# Altium integrated library Linear Technology Power Management Hot Swap Controllers.IntLib: 992 symbols (part 82 of 93)
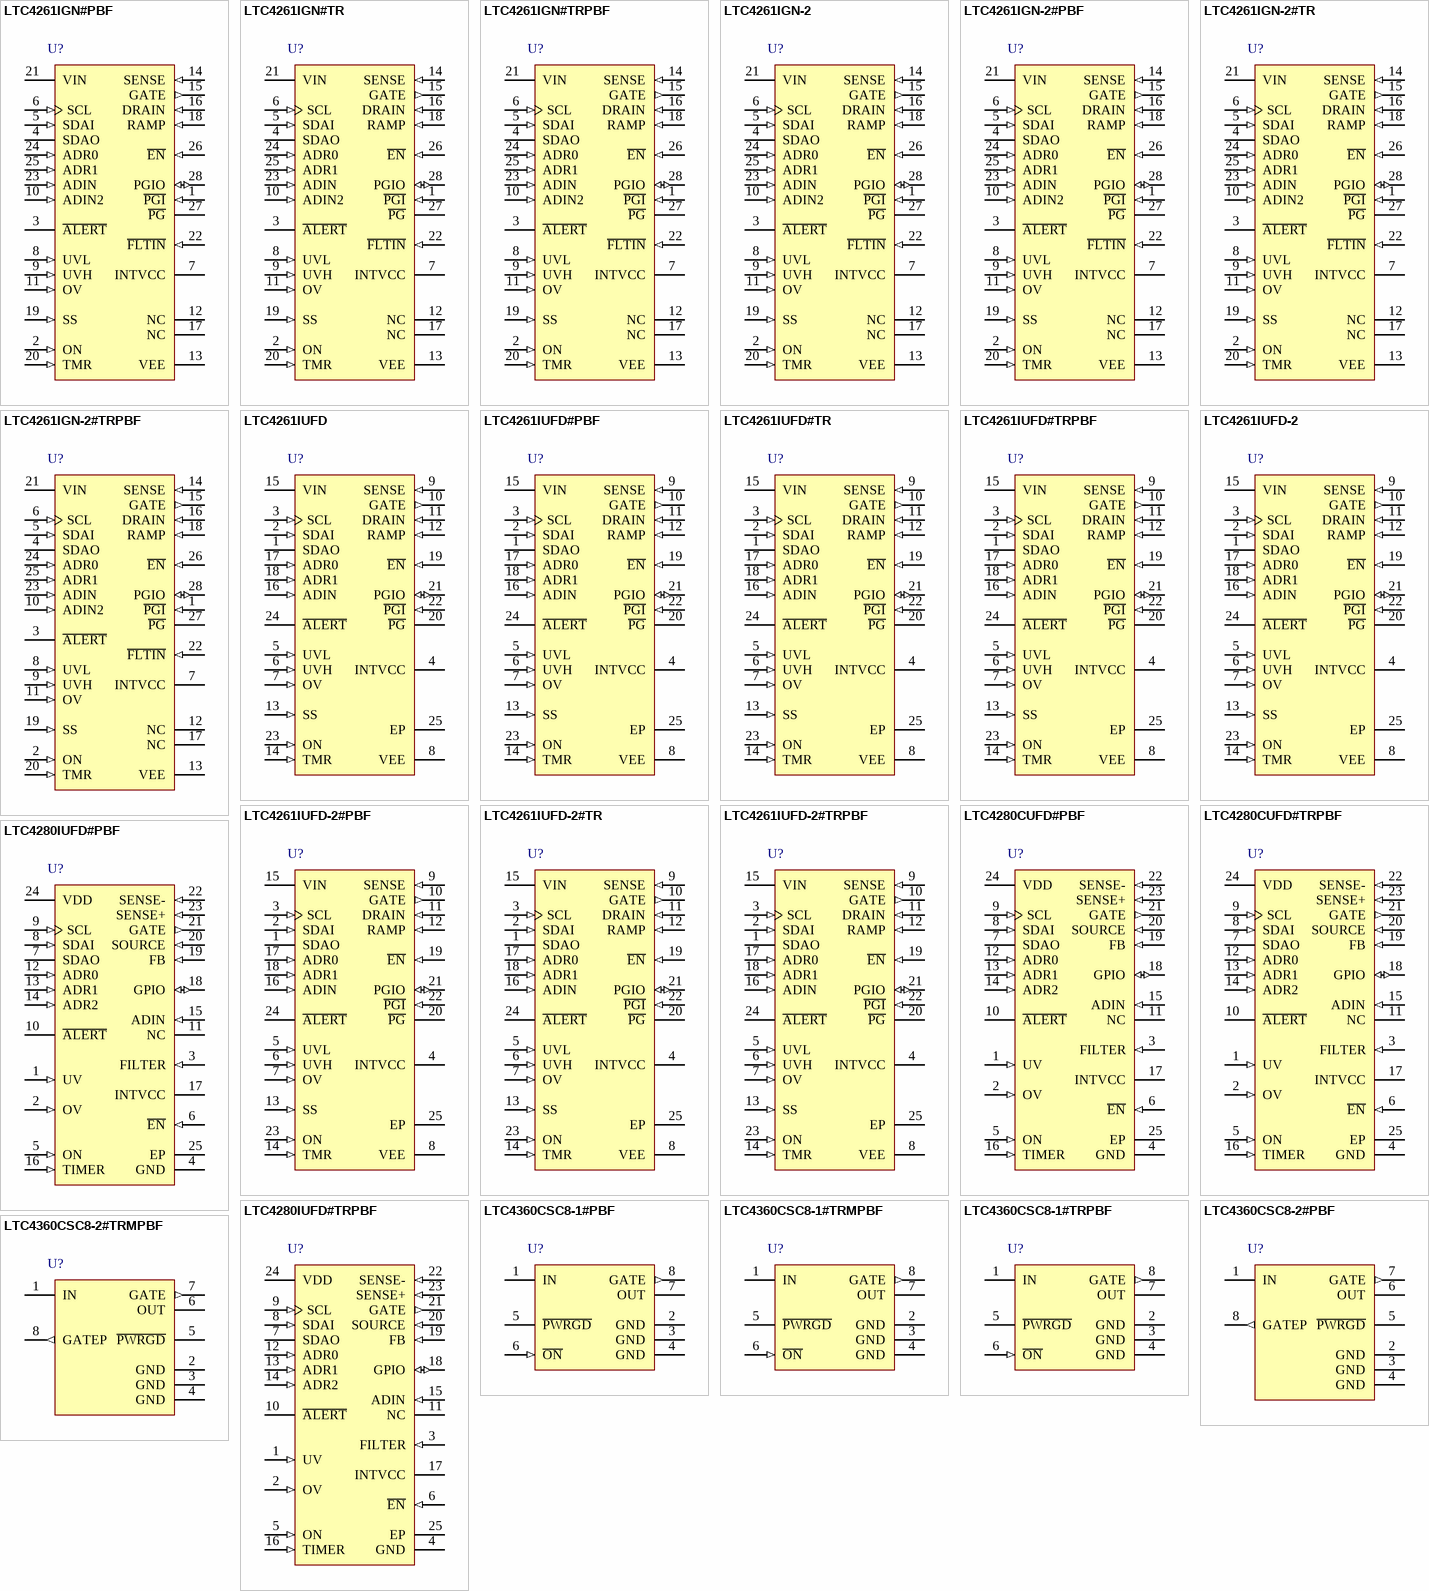
[diagram p118: symbols LTC4261IGN#PBF to LTC4360CSC8-2#TRMPBF]

## LTC4280IUFD#PBF
designator U?
Hot Swap Controller with I2C Compatible Monitoring, 2.9 to 15 V Vin, 24-pin QFN (UFD-24), -40 to 85 degC, Pb-Free; Manufacturer: Linear Technology; PartNumber: LTC4280IUFD#PBF; Active Limiting: yes; ADC: 8-bit; Circuit Breaker Accuracy(%): 10; Circuit Breaker Threshold: 25 mV; Circuit Breakers(#): 1; Extended Temp: C, I; Fast Comparator: no; In-Rush Current: Active / Controlled dI/dT; PackageVersion: Rev. A, 06/2010; PackageReference: UFD-24; PackageDescription: 24-Pin Plastic QFN, Body 5 x 4 mm, Pitch 0.5 mm; Supplier 1: Digi-Key; Supplier Part Number 1: LTC4280IUFD#PBF-ND; Supplier 2: Newark; Supplier Part Number 2: 13T3976; Fault: yes; Foldback: yes; Power Good: yes; Reset: no; RoHS: TRUE; Vin Range: 2.9 to 15 V; Mounting Technology: Surface Mount; Code_JEDEC: MO-220; ComponentLink1Description: Manufacturer URL; ComponentLink1URL: http://www.linear.com/; ComponentLink2Description: Datasheet; ComponentLink2URL: http://cds.linear.com/docs/en/datasheet/4280f.pdf; ComponentLink3Description: Package Specification; ComponentLink3URL: http://cds.linear.com/docs/en/packaging/QFN_24_05-08-1696.pdf
footprint LT-UFD-24_N (QFN, 24-Leads, Body 5.1x4.1mm, Pitch 0.5mm, Thermal Pad 3.65x2.65 mm, IPC Medium Density)
footprint LT-UFD-24_L (QFN, 24-Leads, Body 5.1x4.1mm, Pitch 0.5mm, Thermal Pad 3.65x2.65 mm, IPC High Density)
footprint LT-UFD-24_M (QFN, 24-Leads, Body 5.1x4.1mm, Pitch 0.5mm, Thermal Pad 3.65x2.65 mm, IPC Low Density)
pins: 1 UV (in) "Undervoltage Comparator Input. Connect this pin to an external resistive divider from VDD. If the voltage at this pin falls below 1.155V, an undervoltage fault is detected and the GATE turns off. Pulling this pin below 0.4V (See Datasheet)", 2 OV (in) "Overvoltage Comparator Input. Connect this pin to an external resistive divider from VDD. If the voltage at this pin rises above 1.235V, an overvoltage fault is detected and the GATE turns off. Tie to GND if unused.", 3 FILTER (in) "Fault Filter Input. Connect a capacitor between this pin and ground to set a 123ms/uF delay for overcurrent fault filtering after startup.", 4 GND (power) "Device Ground.", 5 ON (in) "On Control Input. A rising edge turns on the external N-channel MOSFET and a falling edge turns it off. This pin also configures the state of the FET On bit in the control register (and hence the external MOSFET) at powe(See Datasheet)", 6 ~{EN} (in) "Enable Input. Ground this pin to indicate a board is present and enable the N-channel MOSFET to turn on. When this pin is high, the MOSFET is not allowed to turn on. An internal 10uA current source pulls up this pin. (See Datasheet)", 7 SDAO (oc) "Serial Bus Data Output. Open-drain output for sending data back to the master controller or acknowledging a write operation. Normally tied to SDAI to form the SDA line. An external pull-up resistor or current source is (See Datasheet)", 8 SDAI (in) "Serial Bus Data Input. A high impedance input for shifting in address, command or data bits. Normally tied to SDAO to form the SDA line.", 9 SCL (in) "Serial Bus Clock Input. Data at the SDA pin is shifted in or out on rising edges of SCL. This is a high impedance pin that is generally driven by an open-collector output from a master controller. An external pull-up (See Datasheet)", 10 ~{ALERT} (oc) "Fault Alert Output. Open-drain logic output that is pulled to ground when a fault occurs to alert the host controller. A fault alert is enabled by the ALERT register. See Applications Information. Tie to ground if unused.", 11 NC, 12 ADR0 (in) "Serial Bus Address Input. Tying these pins to ground, to the INTVCC pin or open con?gures  one of 27 possible addresses. See Table 1 in Applications  Information.", 13 ADR1 (in) "Serial Bus Address Input. Tying these pins to ground, to the INTVCC pin or open con?gures  one of 27 possible addresses. See Table 1 in Applications  Information.", 14 ADR2 (in) "Serial Bus Address Input. Tying these pins to ground, to the INTVCC pin or open con?gures  one of 27 possible addresses. See Table 1 in Applications  Information.", 15 ADIN (in) "ADC Input. A voltage between 0V and 1.235V  applied to this pin is measured by the onboard ADC. Tie  to ground if unused.", 16 TIMER (in) "Start-Up Timer Input. Connect a capacitor between this pin and ground to set a 12.3ms/uF duration for start-up, after which an overcurrent fault is logged if the inrush is still current limited. The duration of the off time (See Datasheet)", 17 INTVCC (power) "Low Voltage Supply Decoupling Output. Connect a 0.1uF capacitor from this pin to ground.", 18 GPIO (io) "General Purpose Input/Output. Open-drain logic output or logic input. Defaults to an output set to pull low to indicate power is not good. Configure according to Table 2 and 3.", 19 FB (in) "Foldback Current Limit and Power Good Input. A  resistive divider from the output is tied to this pin. When the voltage at this pin drops below 1.235V, power is not considered good. The power bad condition may result in the  (See Datasheet)", 20 SOURCE (in) "N-Channel MOSFET Source and ADC Input. Connect this pin to the source of the external N-channel MOSFET switch for gate drive return. This pin also serves as the ADC input to monitor output voltage. The pin provides a return (See Datasheet)", 21 GATE (out) "Gate Drive for External N-Channel MOSFET. An internal 20uA current source charges the gate of the MOSFET. Often no compensation capacitor is required on the GATE pin, but a resistor and capacitor network from this pin to (See Datasheet)", 22 SENSE- (in) "Negative Current Sense Input. Connect this pin to the output of the current sense resistor. This pin provides sense voltage feedback and monitoring for the current limit, circuit breaker and ADC.", 23 SENSE+ (in) "Positive Current Sense Input. Connect this pin to the input of the current sense resistor. Must be connected to the same trace as VDD.", 24 VDD (power) "Supply Voltage Input. This pin has an undervoltage  lockout threshold of 2.84V and overvoltage lockout  threshold of 15.6V.", 25 EP "Exposed pad may be left open or connected to device ground."

## LTC4280IUFD#TRPBF
designator U?
Hot Swap Controller with I2C Compatible Monitoring, 2.9 to 15 V Vin, 24-pin QFN (UFD-24), -40 to 85 degC, Pb-Free, Tape and Reel; Manufacturer: Linear Technology; PartNumber: LTC4280IUFD#TRPBF; Active Limiting: yes; ADC: 8-bit; Circuit Breaker Accuracy(%): 10; Circuit Breaker Threshold: 25 mV; Circuit Breakers(#): 1; Extended Temp: C, I; Fast Comparator: no; In-Rush Current: Active / Controlled dI/dT; PackageVersion: Rev. A, 06/2010; PackageReference: UFD-24; PackageDescription: 24-Pin Plastic QFN, Body 5 x 4 mm, Pitch 0.5 mm; Supplier 1: Digi-Key; Supplier Part Number 1: LTC4280IUFD#TRPBF-ND; Supplier 2: Newark; Supplier Part Number 2: 13T3977; Fault: yes; Foldback: yes; Packing: Tape and Reel; Power Good: yes; Reset: no; RoHS: TRUE; Vin Range: 2.9 to 15 V; Mounting Technology: Surface Mount; Code_JEDEC: MO-220; ComponentLink1Description: Manufacturer URL; ComponentLink1URL: http://www.linear.com/; ComponentLink2Description: Datasheet; ComponentLink2URL: http://cds.linear.com/docs/en/datasheet/4280f.pdf; ComponentLink3Description: Package Specification; ComponentLink3URL: http://cds.linear.com/docs/en/packaging/QFN_24_05-08-1696.pdf
footprint LT-UFD-24_N (QFN, 24-Leads, Body 5.1x4.1mm, Pitch 0.5mm, Thermal Pad 3.65x2.65 mm, IPC Medium Density)
footprint LT-UFD-24_L (QFN, 24-Leads, Body 5.1x4.1mm, Pitch 0.5mm, Thermal Pad 3.65x2.65 mm, IPC High Density)
footprint LT-UFD-24_M (QFN, 24-Leads, Body 5.1x4.1mm, Pitch 0.5mm, Thermal Pad 3.65x2.65 mm, IPC Low Density)
pins: 1 UV (in) "Undervoltage Comparator Input. Connect this pin to an external resistive divider from VDD. If the voltage at this pin falls below 1.155V, an undervoltage fault is detected and the GATE turns off. Pulling this pin below 0.4V (See Datasheet)", 2 OV (in) "Overvoltage Comparator Input. Connect this pin to an external resistive divider from VDD. If the voltage at this pin rises above 1.235V, an overvoltage fault is detected and the GATE turns off. Tie to GND if unused.", 3 FILTER (in) "Fault Filter Input. Connect a capacitor between this pin and ground to set a 123ms/uF delay for overcurrent fault filtering after startup.", 4 GND (power) "Device Ground.", 5 ON (in) "On Control Input. A rising edge turns on the external N-channel MOSFET and a falling edge turns it off. This pin also configures the state of the FET On bit in the control register (and hence the external MOSFET) at powe(See Datasheet)", 6 ~{EN} (in) "Enable Input. Ground this pin to indicate a board is present and enable the N-channel MOSFET to turn on. When this pin is high, the MOSFET is not allowed to turn on. An internal 10uA current source pulls up this pin. (See Datasheet)", 7 SDAO (oc) "Serial Bus Data Output. Open-drain output for sending data back to the master controller or acknowledging a write operation. Normally tied to SDAI to form the SDA line. An external pull-up resistor or current source is (See Datasheet)", 8 SDAI (in) "Serial Bus Data Input. A high impedance input for shifting in address, command or data bits. Normally tied to SDAO to form the SDA line.", 9 SCL (in) "Serial Bus Clock Input. Data at the SDA pin is shifted in or out on rising edges of SCL. This is a high impedance pin that is generally driven by an open-collector output from a master controller. An external pull-up (See Datasheet)", 10 ~{ALERT} (oc) "Fault Alert Output. Open-drain logic output that is pulled to ground when a fault occurs to alert the host controller. A fault alert is enabled by the ALERT register. See Applications Information. Tie to ground if unused.", 11 NC, 12 ADR0 (in) "Serial Bus Address Input. Tying these pins to ground, to the INTVCC pin or open con?gures  one of 27 possible addresses. See Table 1 in Applications  Information.", 13 ADR1 (in) "Serial Bus Address Input. Tying these pins to ground, to the INTVCC pin or open con?gures  one of 27 possible addresses. See Table 1 in Applications  Information.", 14 ADR2 (in) "Serial Bus Address Input. Tying these pins to ground, to the INTVCC pin or open con?gures  one of 27 possible addresses. See Table 1 in Applications  Information.", 15 ADIN (in) "ADC Input. A voltage between 0V and 1.235V  applied to this pin is measured by the onboard ADC. Tie  to ground if unused.", 16 TIMER (in) "Start-Up Timer Input. Connect a capacitor between this pin and ground to set a 12.3ms/uF duration for start-up, after which an overcurrent fault is logged if the inrush is still current limited. The duration of the off time (See Datasheet)", 17 INTVCC (power) "Low Voltage Supply Decoupling Output. Connect a 0.1uF capacitor from this pin to ground.", 18 GPIO (io) "General Purpose Input/Output. Open-drain logic output or logic input. Defaults to an output set to pull low to indicate power is not good. Configure according to Table 2 and 3.", 19 FB (in) "Foldback Current Limit and Power Good Input. A  resistive divider from the output is tied to this pin. When the voltage at this pin drops below 1.235V, power is not considered good. The power bad condition may result in the  (See Datasheet)", 20 SOURCE (in) "N-Channel MOSFET Source and ADC Input. Connect this pin to the source of the external N-channel MOSFET switch for gate drive return. This pin also serves as the ADC input to monitor output voltage. The pin provides a return (See Datasheet)", 21 GATE (out) "Gate Drive for External N-Channel MOSFET. An internal 20uA current source charges the gate of the MOSFET. Often no compensation capacitor is required on the GATE pin, but a resistor and capacitor network from this pin to (See Datasheet)", 22 SENSE- (in) "Negative Current Sense Input. Connect this pin to the output of the current sense resistor. This pin provides sense voltage feedback and monitoring for the current limit, circuit breaker and ADC.", 23 SENSE+ (in) "Positive Current Sense Input. Connect this pin to the input of the current sense resistor. Must be connected to the same trace as VDD.", 24 VDD (power) "Supply Voltage Input. This pin has an undervoltage  lockout threshold of 2.84V and overvoltage lockout  threshold of 15.6V.", 25 EP "Exposed pad may be left open or connected to device ground."

## LTC4360CSC8-1#PBF
designator U?
Overvoltage Protection Controller, 2.5 to 80 V Vin, 8-pin SOT23 (SC8-8), 0 to 70 degC, Pb-Free; Manufacturer: Linear Technology; PartNumber: LTC4360CSC8-1#PBF; Active Limiting: no; Circuit Breakers(#): 1; Extended Temp: C, I; Power Good: yes; DatasheetVersion: Rev. A; PackageVersion: Rev. Ø, 06/2012; PackageReference: SC8-8; PackageDescription: 8-Pin Plastic SC70, Body 2 x 1.25 mm, Pitch 0.5 mm; Supplier 1: Newark; Supplier Part Number 1: 78T3369; Fast Comparator: no; Fault: no; Foldback: no; Reset: no; RoHS: TRUE; Vin Range: 2.5 to 80 V; Mounting Technology: Surface Mount; Code_JEDEC: MO-203; ComponentLink1Description: Manufacturer URL; ComponentLink1URL: http://www.linear.com/; ComponentLink2Description: Datasheet; ComponentLink2URL: http://cds.linear.com/docs/en/datasheet/436012fa.pdf; ComponentLink3Description: Package Specification; ComponentLink3URL: http://cds.linear.com/docs/en/packaging/SOT_8_05-08-1639.pdf
footprint LT-SC8-8-SC70_N (SOT23, 8-Leads, Body 2.2x1.35mm, Pitch 0.5mm, IPC Medium Density)
footprint LT-SC8-8-SC70_L (SOT23, 8-Leads, Body 2.2x1.35mm, Pitch 0.5mm, IPC High Density)
footprint LT-SC8-8-SC70_M (SOT23, 8-Leads, Body 2.2x1.35mm, Pitch 0.5mm, IPC Low Density)
pins: 1 IN (power) "Supply Voltage Input. Connect this pin to the input power supply. This pin has an overvoltage threshold of 5.8V. After an overvoltage event, this pin must fall below VIN(OV) - deltaVOV to release the overvoltage lockout. (See Datasheet)", 2 GND (power) "Device Ground.", 3 GND (power) "Device Ground.", 4 GND (power) "Device Ground.", 5 ~{PWRGD} (hiz) "Power Good Status. Open-drain output with internal 500k resistive pull-up to OUT. Pulls low 65ms after GATE ramps above VGATE(TH).", 6 ~{ON} (in) "On Control Input. A logic low at O\N\ enables the LTC4360-1. A logic high at O\N\ activates a low current pull-down at the GATE pin and causes the LTC4360-1 to enter a low current sleep mode. An internal 5uA current pulls (See Datasheet)", 7 OUT (power) "Output Voltage Sense Input for Gate Clamp. Connect to the source of the external N-channel MOSFET to sense the output voltage for GATE to OUT clamp.", 8 GATE (out) "Gate Drive for External N-Channel MOSFET. An internal charge pump provides a 10uA pull-up current to charge the gate of the external N-channel MOSFET. An additional ramp circuit limits the GATE ramp rate when turning on to (See Datasheet)"

## LTC4360CSC8-1#TRMPBF
designator U?
Overvoltage Protection Controller, 2.5 to 80 V Vin, 8-pin SOT23 (SC8-8), 0 to 70 degC, Pb-Free, Mini Tape and Reel; Manufacturer: Linear Technology; PartNumber: LTC4360CSC8-1#TRMPBF; Active Limiting: no; Circuit Breakers(#): 1; Extended Temp: C, I; Power Good: yes; DatasheetVersion: Rev. A; PackageVersion: Rev. Ø, 06/2012; PackageReference: SC8-8; PackageDescription: 8-Pin Plastic SC70, Body 2 x 1.25 mm, Pitch 0.5 mm; Supplier 1: Digi-Key; Supplier Part Number 1: LTC4360CSC8-1#TRMPBFTR-ND; Supplier 2: Digi-Key; Supplier Part Number 2: LTC4360CSC8-1#TRMPBFCT-ND; Supplier 3: Digi-Key; Supplier Part Number 3: LTC4360CSC8-1#TRMPBFDKR-ND; Supplier 4: Farnell; Supplier Part Number 4: 1839107; Fast Comparator: no; Fault: no; Foldback: no; Packing: Mini Tape and Reel; Reset: no; RoHS: TRUE; Vin Range: 2.5 to 80 V; Mounting Technology: Surface Mount; Code_JEDEC: MO-203; ComponentLink1Description: Manufacturer URL; ComponentLink1URL: http://www.linear.com/; ComponentLink2Description: Datasheet; ComponentLink2URL: http://cds.linear.com/docs/en/datasheet/436012fa.pdf; ComponentLink3Description: Package Specification; ComponentLink3URL: http://cds.linear.com/docs/en/packaging/SOT_8_05-08-1639.pdf
footprint LT-SC8-8-SC70_N (SOT23, 8-Leads, Body 2.2x1.35mm, Pitch 0.5mm, IPC Medium Density)
footprint LT-SC8-8-SC70_L (SOT23, 8-Leads, Body 2.2x1.35mm, Pitch 0.5mm, IPC High Density)
footprint LT-SC8-8-SC70_M (SOT23, 8-Leads, Body 2.2x1.35mm, Pitch 0.5mm, IPC Low Density)
pins: 1 IN (power) "Supply Voltage Input. Connect this pin to the input power supply. This pin has an overvoltage threshold of 5.8V. After an overvoltage event, this pin must fall below VIN(OV) - deltaVOV to release the overvoltage lockout. (See Datasheet)", 2 GND (power) "Device Ground.", 3 GND (power) "Device Ground.", 4 GND (power) "Device Ground.", 5 ~{PWRGD} (hiz) "Power Good Status. Open-drain output with internal 500k resistive pull-up to OUT. Pulls low 65ms after GATE ramps above VGATE(TH).", 6 ~{ON} (in) "On Control Input. A logic low at O\N\ enables the LTC4360-1. A logic high at O\N\ activates a low current pull-down at the GATE pin and causes the LTC4360-1 to enter a low current sleep mode. An internal 5uA current pulls (See Datasheet)", 7 OUT (power) "Output Voltage Sense Input for Gate Clamp. Connect to the source of the external N-channel MOSFET to sense the output voltage for GATE to OUT clamp.", 8 GATE (out) "Gate Drive for External N-Channel MOSFET. An internal charge pump provides a 10uA pull-up current to charge the gate of the external N-channel MOSFET. An additional ramp circuit limits the GATE ramp rate when turning on to (See Datasheet)"

## LTC4360CSC8-1#TRPBF
designator U?
Overvoltage Protection Controller, 2.5 to 80 V Vin, 8-pin SOT23 (SC8-8), 0 to 70 degC, Pb-Free, Tape and Reel; Manufacturer: Linear Technology; PartNumber: LTC4360CSC8-1#TRPBF; Active Limiting: no; Circuit Breakers(#): 1; Extended Temp: C, I; Power Good: yes; DatasheetVersion: Rev. A; PackageVersion: Rev. Ø, 06/2012; PackageReference: SC8-8; PackageDescription: 8-Pin Plastic SC70, Body 2 x 1.25 mm, Pitch 0.5 mm; Supplier 1: Digi-Key; Supplier Part Number 1: LTC4360CSC8-1#TRPBF-ND; Fast Comparator: no; Fault: no; Foldback: no; Packing: Tape and Reel; Reset: no; RoHS: TRUE; Vin Range: 2.5 to 80 V; Mounting Technology: Surface Mount; Code_JEDEC: MO-203; ComponentLink1Description: Manufacturer URL; ComponentLink1URL: http://www.linear.com/; ComponentLink2Description: Datasheet; ComponentLink2URL: http://cds.linear.com/docs/en/datasheet/436012fa.pdf; ComponentLink3Description: Package Specification; ComponentLink3URL: http://cds.linear.com/docs/en/packaging/SOT_8_05-08-1639.pdf
footprint LT-SC8-8-SC70_N (SOT23, 8-Leads, Body 2.2x1.35mm, Pitch 0.5mm, IPC Medium Density)
footprint LT-SC8-8-SC70_L (SOT23, 8-Leads, Body 2.2x1.35mm, Pitch 0.5mm, IPC High Density)
footprint LT-SC8-8-SC70_M (SOT23, 8-Leads, Body 2.2x1.35mm, Pitch 0.5mm, IPC Low Density)
pins: 1 IN (power) "Supply Voltage Input. Connect this pin to the input power supply. This pin has an overvoltage threshold of 5.8V. After an overvoltage event, this pin must fall below VIN(OV) - deltaVOV to release the overvoltage lockout. (See Datasheet)", 2 GND (power) "Device Ground.", 3 GND (power) "Device Ground.", 4 GND (power) "Device Ground.", 5 ~{PWRGD} (hiz) "Power Good Status. Open-drain output with internal 500k resistive pull-up to OUT. Pulls low 65ms after GATE ramps above VGATE(TH).", 6 ~{ON} (in) "On Control Input. A logic low at O\N\ enables the LTC4360-1. A logic high at O\N\ activates a low current pull-down at the GATE pin and causes the LTC4360-1 to enter a low current sleep mode. An internal 5uA current pulls (See Datasheet)", 7 OUT (power) "Output Voltage Sense Input for Gate Clamp. Connect to the source of the external N-channel MOSFET to sense the output voltage for GATE to OUT clamp.", 8 GATE (out) "Gate Drive for External N-Channel MOSFET. An internal charge pump provides a 10uA pull-up current to charge the gate of the external N-channel MOSFET. An additional ramp circuit limits the GATE ramp rate when turning on to (See Datasheet)"

## LTC4360CSC8-2#PBF
designator U?
Overvoltage Protection Controller, 2.5 to 80 V Vin, 8-pin SOT23 (SC8-8), 0 to 70 degC, Pb-Free; Manufacturer: Linear Technology; PartNumber: LTC4360CSC8-2#PBF; Active Limiting: no; Circuit Breakers(#): 1; Extended Temp: C, I; Power Good: yes; DatasheetVersion: Rev. A; PackageVersion: Rev. Ø, 06/2012; PackageReference: SC8-8; PackageDescription: 8-Pin Plastic SC70, Body 2 x 1.25 mm, Pitch 0.5 mm; Fast Comparator: no; Fault: no; Foldback: no; Reset: no; RoHS: TRUE; Vin Range: 2.5 to 80 V; Mounting Technology: Surface Mount; Code_JEDEC: MO-203; ComponentLink1Description: Manufacturer URL; ComponentLink1URL: http://www.linear.com/; ComponentLink2Description: Datasheet; ComponentLink2URL: http://cds.linear.com/docs/en/datasheet/436012fa.pdf; ComponentLink3Description: Package Specification; ComponentLink3URL: http://cds.linear.com/docs/en/packaging/SOT_8_05-08-1639.pdf
footprint LT-SC8-8-SC70_N (SOT23, 8-Leads, Body 2.2x1.35mm, Pitch 0.5mm, IPC Medium Density)
footprint LT-SC8-8-SC70_L (SOT23, 8-Leads, Body 2.2x1.35mm, Pitch 0.5mm, IPC High Density)
footprint LT-SC8-8-SC70_M (SOT23, 8-Leads, Body 2.2x1.35mm, Pitch 0.5mm, IPC Low Density)
pins: 1 IN (power) "Supply Voltage Input. Connect this pin to the input power supply. This pin has an overvoltage threshold of 5.8V. After an overvoltage event, this pin must fall below VIN(OV) - deltaVOV to release the overvoltage lockout. (See Datasheet)", 2 GND (power) "Device Ground.", 3 GND (power) "Device Ground.", 4 GND (power) "Device Ground.", 5 ~{PWRGD} (hiz) "Power Good Status. Open-drain output with internal 500k resistive pull-up to OUT. Pulls low 65ms after GATE ramps above VGATE(TH).", 6 OUT (power) "Output Voltage Sense Input for Gate Clamp. Connect to the source of the external N-channel MOSFET to sense the output voltage for GATE to OUT clamp.", 7 GATE (out) "Gate Drive for External N-Channel MOSFET. An internal charge pump provides a 10uA pull-up current to charge the gate of the external N-channel MOSFET. An additional ramp circuit limits the GATE ramp rate when turning on to (See Datasheet)", 8 GATEP (out) "Gate Drive for External P-Channel MOSFET. GATEP connects to the gate of an optional external P-channel MOSFET to protect against negative voltages at IN. This pin is internally clamped to 5.8V below VIN. An internal 2M (See Datasheet)"

## LTC4360CSC8-2#TRMPBF
designator U?
Overvoltage Protection Controller, 2.5 to 80 V Vin, 8-pin SOT23 (SC8-8), 0 to 70 degC, Pb-Free, Mini Tape and Reel; Manufacturer: Linear Technology; PartNumber: LTC4360CSC8-2#TRMPBF; Active Limiting: no; Circuit Breakers(#): 1; Extended Temp: C, I; Power Good: yes; DatasheetVersion: Rev. A; PackageVersion: Rev. Ø, 06/2012; PackageReference: SC8-8; PackageDescription: 8-Pin Plastic SC70, Body 2 x 1.25 mm, Pitch 0.5 mm; Supplier 1: Digi-Key; Supplier Part Number 1: LTC4360CSC8-2#TRMPBFTR-ND; Supplier 2: Digi-Key; Supplier Part Number 2: LTC4360CSC8-2#TRMPBFCT-ND; Supplier 3: Digi-Key; Supplier Part Number 3: LTC4360CSC8-2#TRMPBFDKR-ND; Supplier 4: Farnell; Supplier Part Number 4: 1839108; Fast Comparator: no; Fault: no; Foldback: no; Packing: Mini Tape and Reel; Reset: no; RoHS: TRUE; Vin Range: 2.5 to 80 V; Mounting Technology: Surface Mount; Code_JEDEC: MO-203; ComponentLink1Description: Manufacturer URL; ComponentLink1URL: http://www.linear.com/; ComponentLink2Description: Datasheet; ComponentLink2URL: http://cds.linear.com/docs/en/datasheet/436012fa.pdf; ComponentLink3Description: Package Specification; ComponentLink3URL: http://cds.linear.com/docs/en/packaging/SOT_8_05-08-1639.pdf
footprint LT-SC8-8-SC70_N (SOT23, 8-Leads, Body 2.2x1.35mm, Pitch 0.5mm, IPC Medium Density)
footprint LT-SC8-8-SC70_L (SOT23, 8-Leads, Body 2.2x1.35mm, Pitch 0.5mm, IPC High Density)
footprint LT-SC8-8-SC70_M (SOT23, 8-Leads, Body 2.2x1.35mm, Pitch 0.5mm, IPC Low Density)
pins: 1 IN (power) "Supply Voltage Input. Connect this pin to the input power supply. This pin has an overvoltage threshold of 5.8V. After an overvoltage event, this pin must fall below VIN(OV) - deltaVOV to release the overvoltage lockout. (See Datasheet)", 2 GND (power) "Device Ground.", 3 GND (power) "Device Ground.", 4 GND (power) "Device Ground.", 5 ~{PWRGD} (hiz) "Power Good Status. Open-drain output with internal 500k resistive pull-up to OUT. Pulls low 65ms after GATE ramps above VGATE(TH).", 6 OUT (power) "Output Voltage Sense Input for Gate Clamp. Connect to the source of the external N-channel MOSFET to sense the output voltage for GATE to OUT clamp.", 7 GATE (out) "Gate Drive for External N-Channel MOSFET. An internal charge pump provides a 10uA pull-up current to charge the gate of the external N-channel MOSFET. An additional ramp circuit limits the GATE ramp rate when turning on to (See Datasheet)", 8 GATEP (out) "Gate Drive for External P-Channel MOSFET. GATEP connects to the gate of an optional external P-channel MOSFET to protect against negative voltages at IN. This pin is internally clamped to 5.8V below VIN. An internal 2M (See Datasheet)"

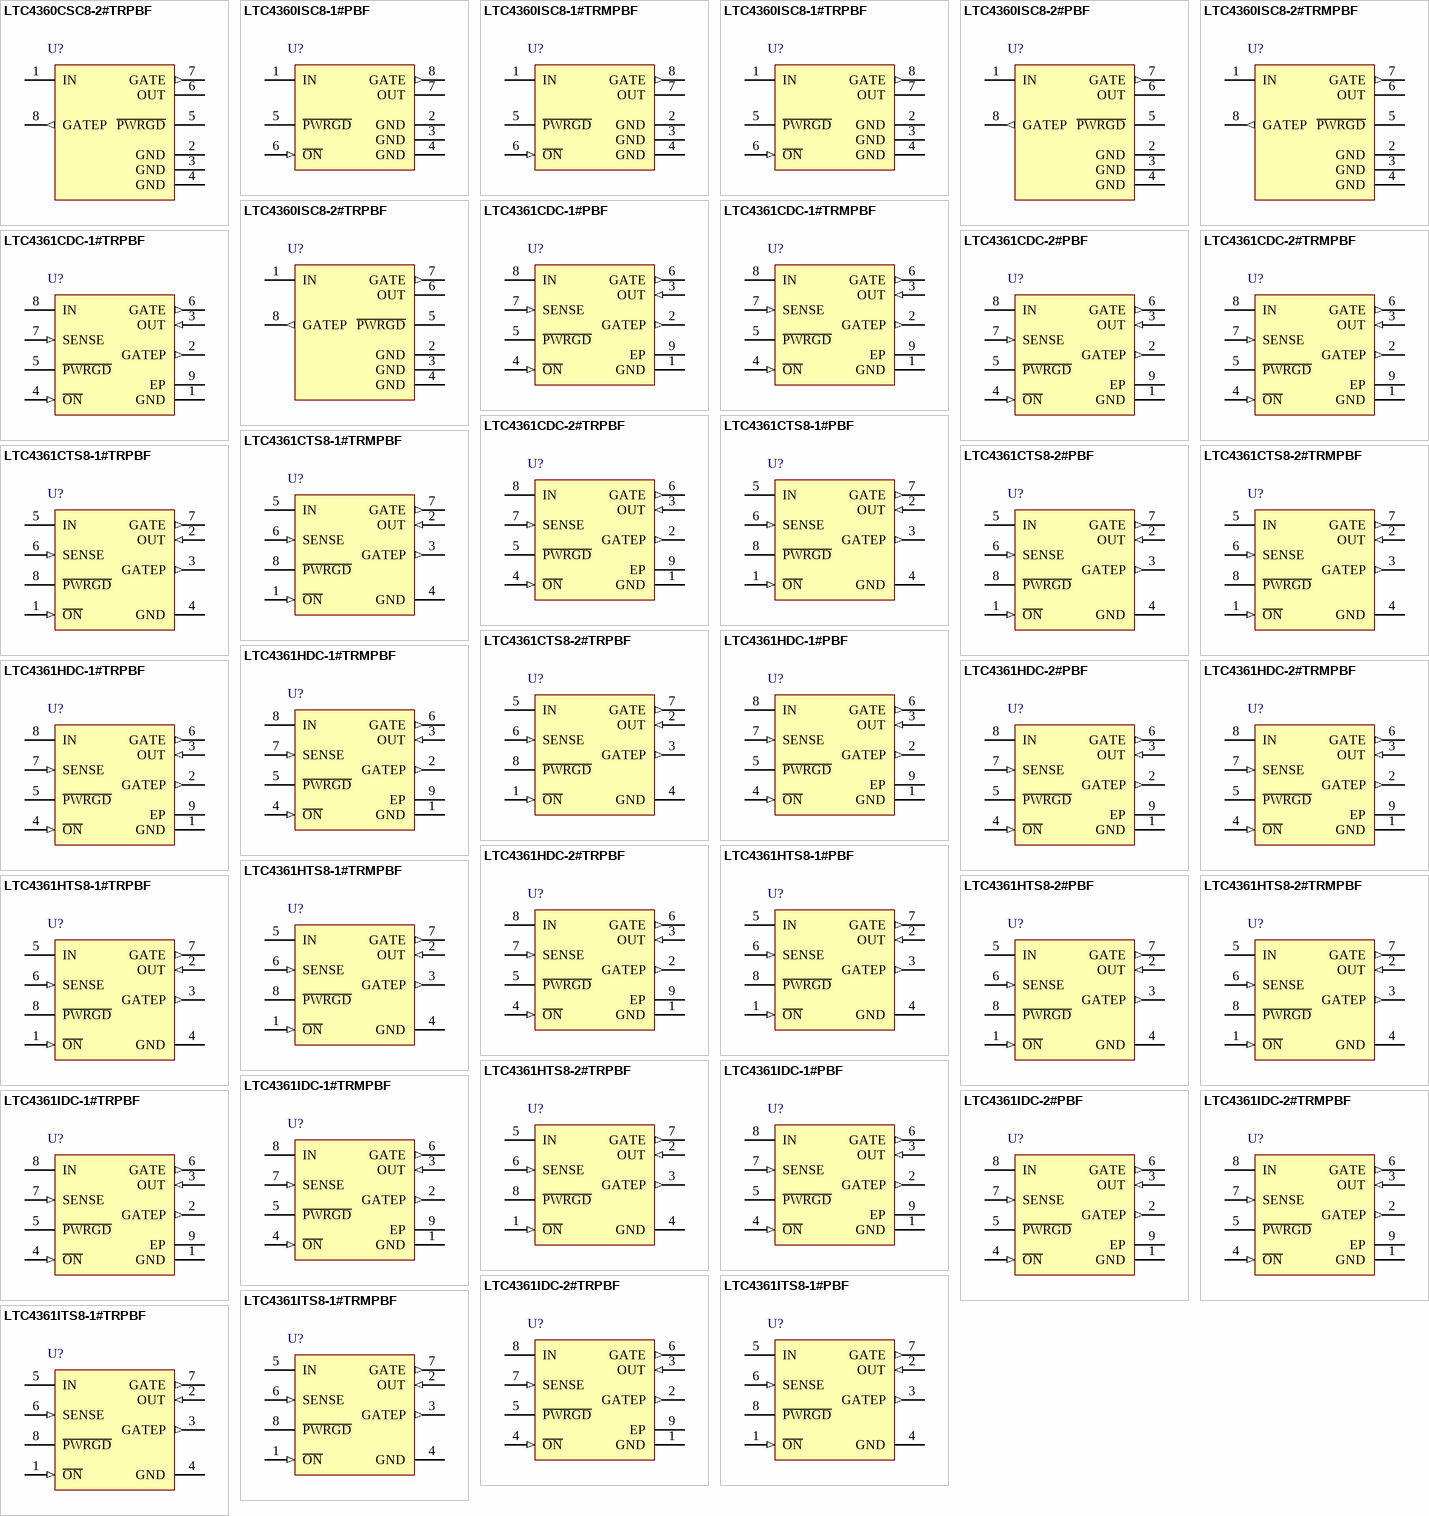
[diagram p33: symbols LTC4360CSC8-2#TRPBF to LTC4361ITS8-1#TRPBF]

## LTC4360CSC8-2#TRPBF
designator U?
Overvoltage Protection Controller, 2.5 to 80 V Vin, 8-pin SOT23 (SC8-8), 0 to 70 degC, Pb-Free, Tape and Reel; Manufacturer: Linear Technology; PartNumber: LTC4360CSC8-2#TRPBF; Active Limiting: no; Circuit Breakers(#): 1; Extended Temp: C, I; Power Good: yes; DatasheetVersion: Rev. A; PackageVersion: Rev. Ø, 06/2012; PackageReference: SC8-8; PackageDescription: 8-Pin Plastic SC70, Body 2 x 1.25 mm, Pitch 0.5 mm; Supplier 1: Digi-Key; Supplier Part Number 1: LTC4360CSC8-2#TRPBF-ND; Fast Comparator: no; Fault: no; Foldback: no; Packing: Tape and Reel; Reset: no; RoHS: TRUE; Vin Range: 2.5 to 80 V; Mounting Technology: Surface Mount; Code_JEDEC: MO-203; ComponentLink1Description: Manufacturer URL; ComponentLink1URL: http://www.linear.com/; ComponentLink2Description: Datasheet; ComponentLink2URL: http://cds.linear.com/docs/en/datasheet/436012fa.pdf; ComponentLink3Description: Package Specification; ComponentLink3URL: http://cds.linear.com/docs/en/packaging/SOT_8_05-08-1639.pdf
footprint LT-SC8-8-SC70_N (SOT23, 8-Leads, Body 2.2x1.35mm, Pitch 0.5mm, IPC Medium Density)
footprint LT-SC8-8-SC70_L (SOT23, 8-Leads, Body 2.2x1.35mm, Pitch 0.5mm, IPC High Density)
footprint LT-SC8-8-SC70_M (SOT23, 8-Leads, Body 2.2x1.35mm, Pitch 0.5mm, IPC Low Density)
pins: 1 IN (power) "Supply Voltage Input. Connect this pin to the input power supply. This pin has an overvoltage threshold of 5.8V. After an overvoltage event, this pin must fall below VIN(OV) - deltaVOV to release the overvoltage lockout. (See Datasheet)", 2 GND (power) "Device Ground.", 3 GND (power) "Device Ground.", 4 GND (power) "Device Ground.", 5 ~{PWRGD} (hiz) "Power Good Status. Open-drain output with internal 500k resistive pull-up to OUT. Pulls low 65ms after GATE ramps above VGATE(TH).", 6 OUT (power) "Output Voltage Sense Input for Gate Clamp. Connect to the source of the external N-channel MOSFET to sense the output voltage for GATE to OUT clamp.", 7 GATE (out) "Gate Drive for External N-Channel MOSFET. An internal charge pump provides a 10uA pull-up current to charge the gate of the external N-channel MOSFET. An additional ramp circuit limits the GATE ramp rate when turning on to (See Datasheet)", 8 GATEP (out) "Gate Drive for External P-Channel MOSFET. GATEP connects to the gate of an optional external P-channel MOSFET to protect against negative voltages at IN. This pin is internally clamped to 5.8V below VIN. An internal 2M (See Datasheet)"

## LTC4360ISC8-1#PBF
designator U?
Overvoltage Protection Controller, 2.5 to 80 V Vin, 8-pin SOT23 (SC8-8), -40 to 85 degC, Pb-Free; Manufacturer: Linear Technology; PartNumber: LTC4360ISC8-1#PBF; Active Limiting: no; Circuit Breakers(#): 1; Extended Temp: C, I; Power Good: yes; DatasheetVersion: Rev. A; PackageVersion: Rev. Ø, 06/2012; PackageReference: SC8-8; PackageDescription: 8-Pin Plastic SC70, Body 2 x 1.25 mm, Pitch 0.5 mm; Supplier 1: Farnell; Supplier Part Number 1: 2308155; Supplier 2: Newark; Supplier Part Number 2: 78T3371; Fast Comparator: no; Fault: no; Foldback: no; Reset: no; RoHS: TRUE; Vin Range: 2.5 to 80 V; Mounting Technology: Surface Mount; Code_JEDEC: MO-203; ComponentLink1Description: Manufacturer URL; ComponentLink1URL: http://www.linear.com/; ComponentLink2Description: Datasheet; ComponentLink2URL: http://cds.linear.com/docs/en/datasheet/436012fa.pdf; ComponentLink3Description: Package Specification; ComponentLink3URL: http://cds.linear.com/docs/en/packaging/SOT_8_05-08-1639.pdf
footprint LT-SC8-8-SC70_N (SOT23, 8-Leads, Body 2.2x1.35mm, Pitch 0.5mm, IPC Medium Density)
footprint LT-SC8-8-SC70_L (SOT23, 8-Leads, Body 2.2x1.35mm, Pitch 0.5mm, IPC High Density)
footprint LT-SC8-8-SC70_M (SOT23, 8-Leads, Body 2.2x1.35mm, Pitch 0.5mm, IPC Low Density)
pins: 1 IN (power) "Supply Voltage Input. Connect this pin to the input power supply. This pin has an overvoltage threshold of 5.8V. After an overvoltage event, this pin must fall below VIN(OV) - deltaVOV to release the overvoltage lockout. (See Datasheet)", 2 GND (power) "Device Ground.", 3 GND (power) "Device Ground.", 4 GND (power) "Device Ground.", 5 ~{PWRGD} (hiz) "Power Good Status. Open-drain output with internal 500k resistive pull-up to OUT. Pulls low 65ms after GATE ramps above VGATE(TH).", 6 ~{ON} (in) "On Control Input. A logic low at O\N\ enables the LTC4360-1. A logic high at O\N\ activates a low current pull-down at the GATE pin and causes the LTC4360-1 to enter a low current sleep mode. An internal 5uA current pulls (See Datasheet)", 7 OUT (power) "Output Voltage Sense Input for Gate Clamp. Connect to the source of the external N-channel MOSFET to sense the output voltage for GATE to OUT clamp.", 8 GATE (out) "Gate Drive for External N-Channel MOSFET. An internal charge pump provides a 10uA pull-up current to charge the gate of the external N-channel MOSFET. An additional ramp circuit limits the GATE ramp rate when turning on to (See Datasheet)"

## LTC4360ISC8-1#TRMPBF
designator U?
Overvoltage Protection Controller, 2.5 to 80 V Vin, 8-pin SOT23 (SC8-8), -40 to 85 degC, Pb-Free, Mini Tape and Reel; Manufacturer: Linear Technology; PartNumber: LTC4360ISC8-1#TRMPBF; Active Limiting: no; Circuit Breakers(#): 1; Extended Temp: C, I; Power Good: yes; DatasheetVersion: Rev. A; PackageVersion: Rev. Ø, 06/2012; PackageReference: SC8-8; PackageDescription: 8-Pin Plastic SC70, Body 2 x 1.25 mm, Pitch 0.5 mm; Supplier 1: Digi-Key; Supplier Part Number 1: LTC4360ISC8-1#TRMPBFTR-ND; Supplier 2: Digi-Key; Supplier Part Number 2: LTC4360ISC8-1#TRMPBFCT-ND; Supplier 3: Digi-Key; Supplier Part Number 3: LTC4360ISC8-1#TRMPBFDKR-ND; Fast Comparator: no; Fault: no; Foldback: no; Packing: Mini Tape and Reel; Reset: no; RoHS: TRUE; Vin Range: 2.5 to 80 V; Mounting Technology: Surface Mount; Code_JEDEC: MO-203; ComponentLink1Description: Manufacturer URL; ComponentLink1URL: http://www.linear.com/; ComponentLink2Description: Datasheet; ComponentLink2URL: http://cds.linear.com/docs/en/datasheet/436012fa.pdf; ComponentLink3Description: Package Specification; ComponentLink3URL: http://cds.linear.com/docs/en/packaging/SOT_8_05-08-1639.pdf
footprint LT-SC8-8-SC70_N (SOT23, 8-Leads, Body 2.2x1.35mm, Pitch 0.5mm, IPC Medium Density)
footprint LT-SC8-8-SC70_L (SOT23, 8-Leads, Body 2.2x1.35mm, Pitch 0.5mm, IPC High Density)
footprint LT-SC8-8-SC70_M (SOT23, 8-Leads, Body 2.2x1.35mm, Pitch 0.5mm, IPC Low Density)
pins: 1 IN (power) "Supply Voltage Input. Connect this pin to the input power supply. This pin has an overvoltage threshold of 5.8V. After an overvoltage event, this pin must fall below VIN(OV) - deltaVOV to release the overvoltage lockout. (See Datasheet)", 2 GND (power) "Device Ground.", 3 GND (power) "Device Ground.", 4 GND (power) "Device Ground.", 5 ~{PWRGD} (hiz) "Power Good Status. Open-drain output with internal 500k resistive pull-up to OUT. Pulls low 65ms after GATE ramps above VGATE(TH).", 6 ~{ON} (in) "On Control Input. A logic low at O\N\ enables the LTC4360-1. A logic high at O\N\ activates a low current pull-down at the GATE pin and causes the LTC4360-1 to enter a low current sleep mode. An internal 5uA current pulls (See Datasheet)", 7 OUT (power) "Output Voltage Sense Input for Gate Clamp. Connect to the source of the external N-channel MOSFET to sense the output voltage for GATE to OUT clamp.", 8 GATE (out) "Gate Drive for External N-Channel MOSFET. An internal charge pump provides a 10uA pull-up current to charge the gate of the external N-channel MOSFET. An additional ramp circuit limits the GATE ramp rate when turning on to (See Datasheet)"

## LTC4360ISC8-1#TRPBF
designator U?
Overvoltage Protection Controller, 2.5 to 80 V Vin, 8-pin SOT23 (SC8-8), -40 to 85 degC, Pb-Free, Tape and Reel; Manufacturer: Linear Technology; PartNumber: LTC4360ISC8-1#TRPBF; Active Limiting: no; Circuit Breakers(#): 1; Extended Temp: C, I; Power Good: yes; DatasheetVersion: Rev. A; PackageVersion: Rev. Ø, 06/2012; PackageReference: SC8-8; PackageDescription: 8-Pin Plastic SC70, Body 2 x 1.25 mm, Pitch 0.5 mm; Supplier 1: Digi-Key; Supplier Part Number 1: LTC4360ISC8-1#TRPBF-ND; Fast Comparator: no; Fault: no; Foldback: no; Packing: Tape and Reel; Reset: no; RoHS: TRUE; Vin Range: 2.5 to 80 V; Mounting Technology: Surface Mount; Code_JEDEC: MO-203; ComponentLink1Description: Manufacturer URL; ComponentLink1URL: http://www.linear.com/; ComponentLink2Description: Datasheet; ComponentLink2URL: http://cds.linear.com/docs/en/datasheet/436012fa.pdf; ComponentLink3Description: Package Specification; ComponentLink3URL: http://cds.linear.com/docs/en/packaging/SOT_8_05-08-1639.pdf
footprint LT-SC8-8-SC70_N (SOT23, 8-Leads, Body 2.2x1.35mm, Pitch 0.5mm, IPC Medium Density)
footprint LT-SC8-8-SC70_L (SOT23, 8-Leads, Body 2.2x1.35mm, Pitch 0.5mm, IPC High Density)
footprint LT-SC8-8-SC70_M (SOT23, 8-Leads, Body 2.2x1.35mm, Pitch 0.5mm, IPC Low Density)
pins: 1 IN (power) "Supply Voltage Input. Connect this pin to the input power supply. This pin has an overvoltage threshold of 5.8V. After an overvoltage event, this pin must fall below VIN(OV) - deltaVOV to release the overvoltage lockout. (See Datasheet)", 2 GND (power) "Device Ground.", 3 GND (power) "Device Ground.", 4 GND (power) "Device Ground.", 5 ~{PWRGD} (hiz) "Power Good Status. Open-drain output with internal 500k resistive pull-up to OUT. Pulls low 65ms after GATE ramps above VGATE(TH).", 6 ~{ON} (in) "On Control Input. A logic low at O\N\ enables the LTC4360-1. A logic high at O\N\ activates a low current pull-down at the GATE pin and causes the LTC4360-1 to enter a low current sleep mode. An internal 5uA current pulls (See Datasheet)", 7 OUT (power) "Output Voltage Sense Input for Gate Clamp. Connect to the source of the external N-channel MOSFET to sense the output voltage for GATE to OUT clamp.", 8 GATE (out) "Gate Drive for External N-Channel MOSFET. An internal charge pump provides a 10uA pull-up current to charge the gate of the external N-channel MOSFET. An additional ramp circuit limits the GATE ramp rate when turning on to (See Datasheet)"

## LTC4360ISC8-2#PBF
designator U?
Overvoltage Protection Controller, 2.5 to 80 V Vin, 8-pin SOT23 (SC8-8), -40 to 85 degC, Pb-Free; Manufacturer: Linear Technology; PartNumber: LTC4360ISC8-2#PBF; Active Limiting: no; Circuit Breakers(#): 1; Extended Temp: C, I; Power Good: yes; DatasheetVersion: Rev. A; PackageVersion: Rev. Ø, 06/2012; PackageReference: SC8-8; PackageDescription: 8-Pin Plastic SC70, Body 2 x 1.25 mm, Pitch 0.5 mm; Fast Comparator: no; Fault: no; Foldback: no; Reset: no; RoHS: TRUE; Vin Range: 2.5 to 80 V; Mounting Technology: Surface Mount; Code_JEDEC: MO-203; ComponentLink1Description: Manufacturer URL; ComponentLink1URL: http://www.linear.com/; ComponentLink2Description: Datasheet; ComponentLink2URL: http://cds.linear.com/docs/en/datasheet/436012fa.pdf; ComponentLink3Description: Package Specification; ComponentLink3URL: http://cds.linear.com/docs/en/packaging/SOT_8_05-08-1639.pdf
footprint LT-SC8-8-SC70_N (SOT23, 8-Leads, Body 2.2x1.35mm, Pitch 0.5mm, IPC Medium Density)
footprint LT-SC8-8-SC70_L (SOT23, 8-Leads, Body 2.2x1.35mm, Pitch 0.5mm, IPC High Density)
footprint LT-SC8-8-SC70_M (SOT23, 8-Leads, Body 2.2x1.35mm, Pitch 0.5mm, IPC Low Density)
pins: 1 IN (power) "Supply Voltage Input. Connect this pin to the input power supply. This pin has an overvoltage threshold of 5.8V. After an overvoltage event, this pin must fall below VIN(OV) - deltaVOV to release the overvoltage lockout. (See Datasheet)", 2 GND (power) "Device Ground.", 3 GND (power) "Device Ground.", 4 GND (power) "Device Ground.", 5 ~{PWRGD} (hiz) "Power Good Status. Open-drain output with internal 500k resistive pull-up to OUT. Pulls low 65ms after GATE ramps above VGATE(TH).", 6 OUT (power) "Output Voltage Sense Input for Gate Clamp. Connect to the source of the external N-channel MOSFET to sense the output voltage for GATE to OUT clamp.", 7 GATE (out) "Gate Drive for External N-Channel MOSFET. An internal charge pump provides a 10uA pull-up current to charge the gate of the external N-channel MOSFET. An additional ramp circuit limits the GATE ramp rate when turning on to (See Datasheet)", 8 GATEP (out) "Gate Drive for External P-Channel MOSFET. GATEP connects to the gate of an optional external P-channel MOSFET to protect against negative voltages at IN. This pin is internally clamped to 5.8V below VIN. An internal 2M (See Datasheet)"

## LTC4360ISC8-2#TRMPBF
designator U?
Overvoltage Protection Controller, 2.5 to 80 V Vin, 8-pin SOT23 (SC8-8), -40 to 85 degC, Pb-Free, Mini Tape and Reel; Manufacturer: Linear Technology; PartNumber: LTC4360ISC8-2#TRMPBF; Active Limiting: no; Circuit Breakers(#): 1; Extended Temp: C, I; Power Good: yes; DatasheetVersion: Rev. A; PackageVersion: Rev. Ø, 06/2012; PackageReference: SC8-8; PackageDescription: 8-Pin Plastic SC70, Body 2 x 1.25 mm, Pitch 0.5 mm; Supplier 1: Digi-Key; Supplier Part Number 1: LTC4360ISC8-2#TRMPBFTR-ND; Supplier 2: Digi-Key; Supplier Part Number 2: LTC4360ISC8-2#TRMPBFCT-ND; Supplier 3: Digi-Key; Supplier Part Number 3: LTC4360ISC8-2#TRMPBFDKR-ND; Fast Comparator: no; Fault: no; Foldback: no; Packing: Mini Tape and Reel; Reset: no; RoHS: TRUE; Vin Range: 2.5 to 80 V; Mounting Technology: Surface Mount; Code_JEDEC: MO-203; ComponentLink1Description: Manufacturer URL; ComponentLink1URL: http://www.linear.com/; ComponentLink2Description: Datasheet; ComponentLink2URL: http://cds.linear.com/docs/en/datasheet/436012fa.pdf; ComponentLink3Description: Package Specification; ComponentLink3URL: http://cds.linear.com/docs/en/packaging/SOT_8_05-08-1639.pdf
footprint LT-SC8-8-SC70_N (SOT23, 8-Leads, Body 2.2x1.35mm, Pitch 0.5mm, IPC Medium Density)
footprint LT-SC8-8-SC70_L (SOT23, 8-Leads, Body 2.2x1.35mm, Pitch 0.5mm, IPC High Density)
footprint LT-SC8-8-SC70_M (SOT23, 8-Leads, Body 2.2x1.35mm, Pitch 0.5mm, IPC Low Density)
pins: 1 IN (power) "Supply Voltage Input. Connect this pin to the input power supply. This pin has an overvoltage threshold of 5.8V. After an overvoltage event, this pin must fall below VIN(OV) - deltaVOV to release the overvoltage lockout. (See Datasheet)", 2 GND (power) "Device Ground.", 3 GND (power) "Device Ground.", 4 GND (power) "Device Ground.", 5 ~{PWRGD} (hiz) "Power Good Status. Open-drain output with internal 500k resistive pull-up to OUT. Pulls low 65ms after GATE ramps above VGATE(TH).", 6 OUT (power) "Output Voltage Sense Input for Gate Clamp. Connect to the source of the external N-channel MOSFET to sense the output voltage for GATE to OUT clamp.", 7 GATE (out) "Gate Drive for External N-Channel MOSFET. An internal charge pump provides a 10uA pull-up current to charge the gate of the external N-channel MOSFET. An additional ramp circuit limits the GATE ramp rate when turning on to (See Datasheet)", 8 GATEP (out) "Gate Drive for External P-Channel MOSFET. GATEP connects to the gate of an optional external P-channel MOSFET to protect against negative voltages at IN. This pin is internally clamped to 5.8V below VIN. An internal 2M (See Datasheet)"

## LTC4360ISC8-2#TRPBF
designator U?
Overvoltage Protection Controller, 2.5 to 80 V Vin, 8-pin SOT23 (SC8-8), -40 to 85 degC, Pb-Free, Tape and Reel; Manufacturer: Linear Technology; PartNumber: LTC4360ISC8-2#TRPBF; Active Limiting: no; Circuit Breakers(#): 1; Extended Temp: C, I; Power Good: yes; DatasheetVersion: Rev. A; PackageVersion: Rev. Ø, 06/2012; PackageReference: SC8-8; PackageDescription: 8-Pin Plastic SC70, Body 2 x 1.25 mm, Pitch 0.5 mm; Supplier 1: Digi-Key; Supplier Part Number 1: LTC4360ISC8-2#TRPBF-ND; Fast Comparator: no; Fault: no; Foldback: no; Packing: Tape and Reel; Reset: no; RoHS: TRUE; Vin Range: 2.5 to 80 V; Mounting Technology: Surface Mount; Code_JEDEC: MO-203; ComponentLink1Description: Manufacturer URL; ComponentLink1URL: http://www.linear.com/; ComponentLink2Description: Datasheet; ComponentLink2URL: http://cds.linear.com/docs/en/datasheet/436012fa.pdf; ComponentLink3Description: Package Specification; ComponentLink3URL: http://cds.linear.com/docs/en/packaging/SOT_8_05-08-1639.pdf
footprint LT-SC8-8-SC70_N (SOT23, 8-Leads, Body 2.2x1.35mm, Pitch 0.5mm, IPC Medium Density)
footprint LT-SC8-8-SC70_L (SOT23, 8-Leads, Body 2.2x1.35mm, Pitch 0.5mm, IPC High Density)
footprint LT-SC8-8-SC70_M (SOT23, 8-Leads, Body 2.2x1.35mm, Pitch 0.5mm, IPC Low Density)
pins: 1 IN (power) "Supply Voltage Input. Connect this pin to the input power supply. This pin has an overvoltage threshold of 5.8V. After an overvoltage event, this pin must fall below VIN(OV) - deltaVOV to release the overvoltage lockout. (See Datasheet)", 2 GND (power) "Device Ground.", 3 GND (power) "Device Ground.", 4 GND (power) "Device Ground.", 5 ~{PWRGD} (hiz) "Power Good Status. Open-drain output with internal 500k resistive pull-up to OUT. Pulls low 65ms after GATE ramps above VGATE(TH).", 6 OUT (power) "Output Voltage Sense Input for Gate Clamp. Connect to the source of the external N-channel MOSFET to sense the output voltage for GATE to OUT clamp.", 7 GATE (out) "Gate Drive for External N-Channel MOSFET. An internal charge pump provides a 10uA pull-up current to charge the gate of the external N-channel MOSFET. An additional ramp circuit limits the GATE ramp rate when turning on to (See Datasheet)", 8 GATEP (out) "Gate Drive for External P-Channel MOSFET. GATEP connects to the gate of an optional external P-channel MOSFET to protect against negative voltages at IN. This pin is internally clamped to 5.8V below VIN. An internal 2M (See Datasheet)"

## LTC4361CDC-1#PBF
designator U?
Overvoltage / Overcurrent Protection Controller, 2.5 to 80 V Vin, 8-pin SON (DC8-8), 0 to 70 degC, Pb-Free; Manufacturer: Linear Technology; PartNumber: LTC4361CDC-1#PBF; Active Limiting: no; Circuit Breaker Accuracy(%): 10; Circuit Breaker Threshold: 50 mV; Circuit Breakers(#): 1; Extended Temp: C, I, H; Power Good: yes; DatasheetVersion: Rev. B; PackageVersion: Rev. A, 06/2010; PackageReference: DC8-8; PackageDescription: 8-Pin Plastic DFN, Body 2 x 2 mm, Pitch 0.45 mm; Fast Comparator: no; Fault: no; Foldback: no; Reset: no; RoHS: TRUE; Vin Range: 2.5 to 80 V; Mounting Technology: Surface Mount; ComponentLink1Description: Manufacturer URL; ComponentLink1URL: http://www.linear.com/; ComponentLink2Description: Datasheet; ComponentLink2URL: http://cds.linear.com/docs/en/datasheet/436112fb.pdf; ComponentLink3Description: Package Specification; ComponentLink3URL: http://www.linear.com/docs/en/packaging/DFN_8_05-08-1719.pdf
footprint LT-DC8-8_V (SON, 8-Leads, Body 2x2mm, Pitch 0.45mm, Thermal Pad 1.37x0.64mm)
pins: 1 GND (power) "Device Ground.", 2 GATEP (out) "Gate Drive for External P-Channel MOSFET. GATEP connects to the gate of an optional external P-channel MOSFET to protect against negative voltages at IN. This pin is internally clamped to 5.8V below VIN. An internal 2M (See Datasheet)", 3 OUT (in) "Output Voltage Sense Input for GATE Clamp. Connect to the source of the external N-channel MOSFET to sense the output voltage for GATE to OUT clamp.", 4 ~{ON} (in) "On Control Input. A logic low at O\N\ enables the LTC4361. A logic high at O\N\ activates a low current pull-down at the GATE pin and causes the LTC4361 to enter a low current sleep mode. An internal 5uA current pulls O\N\ (See Datasheet)", 5 ~{PWRGD} (hiz) "Power Good Status. Open-drain output with internal 500k resistive pull-up to OUT. Pulls low 65ms after GATE ramps above VGATE(TH).", 6 GATE (out) "Gate Drive for External N-Channel MOSFET. An internal charge pump provides a 10uA pull-up current to charge the gate of the external N-channel MOSFET. An additional ramp circuit limits the GATE ramp rate when turning on to (See Datasheet)", 7 SENSE (in) "Current Sense Input. Connect a sense resistor between IN and SENSE. An overcurrent protection circuit turns off the N-channel MOSFET when the voltage across the sense resistor exceeds 50mV for more than 10us.", 8 IN (power) "Supply Voltage Input. Connect this pin to the input power supply. This pin has an overvoltage threshold of 5.8V. After an overvoltage event, this pin must fall below VIN(OV) - deltaVOV to release the overvoltage lockout. (See Datasheet)", 9 EP (power) "EXPOSED PAD (PIN 9) IS GND"

## LTC4361CDC-1#TRMPBF
designator U?
Overvoltage / Overcurrent Protection Controller, 2.5 to 80 V Vin, 8-pin SON (DC8-8), 0 to 70 degC, Pb-Free, Mini Tape and Reel; Manufacturer: Linear Technology; PartNumber: LTC4361CDC-1#TRMPBF; Active Limiting: no; Circuit Breaker Accuracy(%): 10; Circuit Breaker Threshold: 50 mV; Circuit Breakers(#): 1; Extended Temp: C, I, H; Power Good: yes; DatasheetVersion: Rev. B; PackageVersion: Rev. A, 06/2010; PackageReference: DC8-8; PackageDescription: 8-Pin Plastic DFN, Body 2 x 2 mm, Pitch 0.45 mm; Supplier 1: Digi-Key; Supplier Part Number 1: LTC4361CDC-1#TRMPBFTR-ND; Supplier 2: Digi-Key; Supplier Part Number 2: LTC4361CDC-1#TRMPBFCT-ND; Supplier 3: Digi-Key; Supplier Part Number 3: LTC4361CDC-1#TRMPBFDKR-ND; Supplier 4: Farnell; Supplier Part Number 4: 1839109; Fast Comparator: no; Fault: no; Foldback: no; Packing: Mini Tape and Reel; Reset: no; RoHS: TRUE; Vin Range: 2.5 to 80 V; Mounting Technology: Surface Mount; ComponentLink1Description: Manufacturer URL; ComponentLink1URL: http://www.linear.com/; ComponentLink2Description: Datasheet; ComponentLink2URL: http://cds.linear.com/docs/en/datasheet/436112fb.pdf; ComponentLink3Description: Package Specification; ComponentLink3URL: http://www.linear.com/docs/en/packaging/DFN_8_05-08-1719.pdf
footprint LT-DC8-8_V (SON, 8-Leads, Body 2x2mm, Pitch 0.45mm, Thermal Pad 1.37x0.64mm)
pins: 1 GND (power) "Device Ground.", 2 GATEP (out) "Gate Drive for External P-Channel MOSFET. GATEP connects to the gate of an optional external P-channel MOSFET to protect against negative voltages at IN. This pin is internally clamped to 5.8V below VIN. An internal 2M (See Datasheet)", 3 OUT (in) "Output Voltage Sense Input for GATE Clamp. Connect to the source of the external N-channel MOSFET to sense the output voltage for GATE to OUT clamp.", 4 ~{ON} (in) "On Control Input. A logic low at O\N\ enables the LTC4361. A logic high at O\N\ activates a low current pull-down at the GATE pin and causes the LTC4361 to enter a low current sleep mode. An internal 5uA current pulls O\N\ (See Datasheet)", 5 ~{PWRGD} (hiz) "Power Good Status. Open-drain output with internal 500k resistive pull-up to OUT. Pulls low 65ms after GATE ramps above VGATE(TH).", 6 GATE (out) "Gate Drive for External N-Channel MOSFET. An internal charge pump provides a 10uA pull-up current to charge the gate of the external N-channel MOSFET. An additional ramp circuit limits the GATE ramp rate when turning on to (See Datasheet)", 7 SENSE (in) "Current Sense Input. Connect a sense resistor between IN and SENSE. An overcurrent protection circuit turns off the N-channel MOSFET when the voltage across the sense resistor exceeds 50mV for more than 10us.", 8 IN (power) "Supply Voltage Input. Connect this pin to the input power supply. This pin has an overvoltage threshold of 5.8V. After an overvoltage event, this pin must fall below VIN(OV) - deltaVOV to release the overvoltage lockout. (See Datasheet)", 9 EP (power) "EXPOSED PAD (PIN 9) IS GND"